# EAGLE library part DEV-15583 (library DEV-15583)
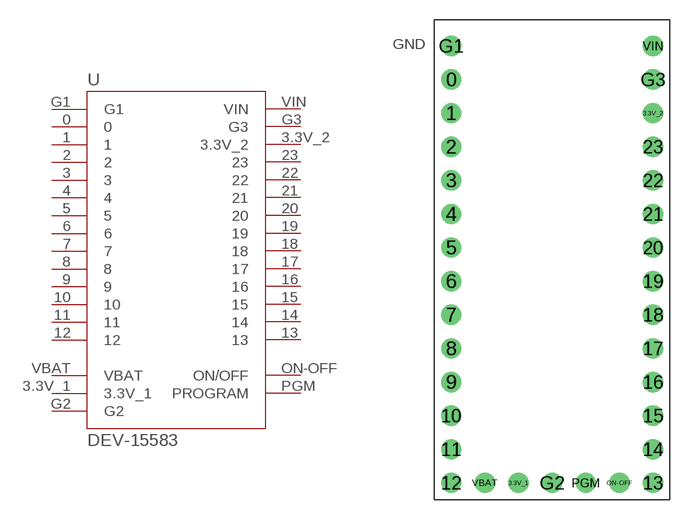
[diagram p0: symbol with the pads of MODULE_DEV-15583; footprint MODULE_DEV-15583]

Designator prefix U

## DEV-15583 (Check_prices: https://www.snapeda.com/parts/DEV-15583/SparkFun/view-part/?ref=eda; Description: RT1062 Teensy 4.0 series ARM® Cortex®-M7 MPU Embedded Evaluation Board; MF: SparkFun Electronics; MP: DEV-15583; Package: None; SnapEDA_Link: https://www.snapeda.com/parts/DEV-15583/SparkFun/view-part/?ref=snap)  [MODULE_DEV-15583]
0  0
1  1
2  2
3  3
3.3V_1  3.3V_1  pwr
3.3V_2  3.3V_2  pwr
4  4
5  5
6  6
7  7
8  8
9  9
10  10
11  11
12  12
13  13
14  14
15  15
16  16
17  17
18  18
19  19
20  20
21  21
22  22
23  23
G1  G1  pwr
G2  G2  pwr
G3  G3  pwr
ON-OFF  ON/OFF
PGM  PROGRAM
VBAT  VBAT  pwr
VIN  VIN  pwr

## Footprint MODULE_DEV-15583 (pad centres in mm)
drill 1.02: 0 -7.62,13.97; 1 -7.62,11.43; 2 -7.62,8.89; 3 -7.62,6.35; 3.3V_1 -2.54,-16.51; 3.3V_2 7.62,11.43; 4 -7.62,3.81; 5 -7.62,1.27; 6 -7.62,-1.27; 7 -7.62,-3.81; 8 -7.62,-6.35; 9 -7.62,-8.89; 10 -7.62,-11.43; 11 -7.62,-13.97; 12 -7.62,-16.51; 13 7.62,-16.51; 14 7.62,-13.97; 15 7.62,-11.43; 16 7.62,-8.89; 17 7.62,-6.35; 18 7.62,-3.81; 19 7.62,-1.27; 20 7.62,1.27; 21 7.62,3.81; 22 7.62,6.35; 23 7.62,8.89; G1 -7.62,16.51; G2 0,-16.51; G3 7.62,13.97; ON-OFF 5.08,-16.51; PGM 2.54,-16.51; VBAT -5.08,-16.51; VIN 7.62,16.51